# EAGLE library part INA282AID (library library)
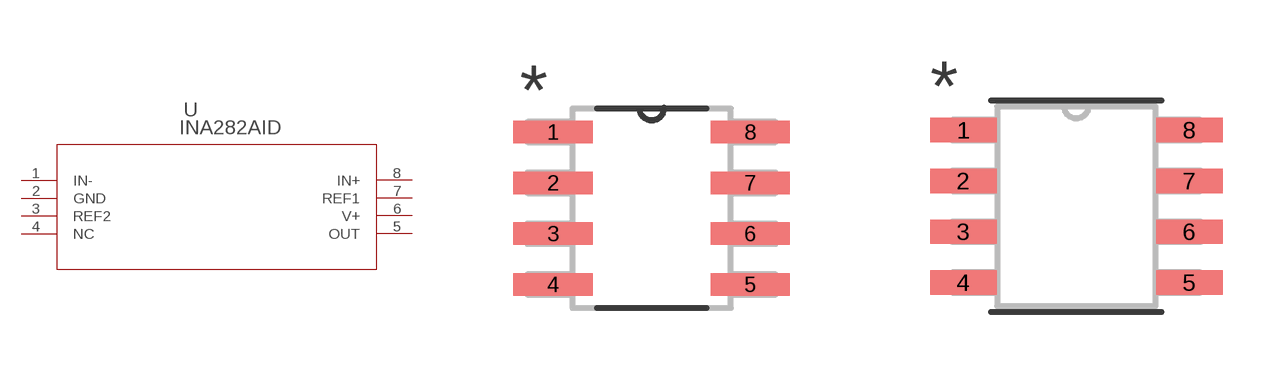
[diagram p1: symbol with the pads of D8; footprints D8, D8-M]

Designator prefix U

## INA282AID (DATASHEET_URL: http://www.ti.com/lit/gpn/INA282; DESCRIPTION: Wide Common Mode Range, Bidirectional, High Accuracy Current Shunt Monitor; FAMILY_NAME: CURRENT SHUNT MONITOR; GENERIC_PART_NUMBER: INA282; INDUSTRY_STD_PKG_TYPE: SOIC; MANUFACTURER: Texas Instruments; MANUFACTURER_PART_NUMBER: INA282AID; PACKAGE_DESIGNATOR: D; PIN_COUNT: 8; VENDOR: Texas Instruments)  [D8]
1  IN-  in
2  GND  pwr
3  REF2  pas
4  NC  pas
5  OUT  out
6  V+  pwr
7  REF1  pas
8  IN+  in

## INA282AIDD8-M (DATASHEET_URL: http://www.ti.com/lit/gpn/INA282; DESCRIPTION: Wide Common Mode Range, Bidirectional, High Accuracy Current Shunt Monitor; FAMILY_NAME: CURRENT SHUNT MONITOR; GENERIC_PART_NUMBER: INA282; INDUSTRY_STD_PKG_TYPE: SOIC; MANUFACTURER: Texas Instruments; MANUFACTURER_PART_NUMBER: INA282AID; PACKAGE_DESIGNATOR: D; PIN_COUNT: 8; VENDOR: Texas Instruments)  [D8-M]
Pads as for D8

## INA282AIDD8-L (DATASHEET_URL: http://www.ti.com/lit/gpn/INA282; DESCRIPTION: Wide Common Mode Range, Bidirectional, High Accuracy Current Shunt Monitor; FAMILY_NAME: CURRENT SHUNT MONITOR; GENERIC_PART_NUMBER: INA282; INDUSTRY_STD_PKG_TYPE: SOIC; MANUFACTURER: Texas Instruments; MANUFACTURER_PART_NUMBER: INA282AID; PACKAGE_DESIGNATOR: D; PIN_COUNT: 8; VENDOR: Texas Instruments)  [D8-L]
Pads as for D8

## Footprint D8 (pad centres in mm)
smd 1.981 x 0.559: 1 -2.464,1.905; 2 -2.464,0.635; 3 -2.464,-0.635; 4 -2.464,-1.905; 5 2.464,-1.905; 6 2.464,-0.635; 7 2.464,0.635; 8 2.464,1.905

## Footprint D8-M (pad centres in mm)
smd 1.664 x 0.61: 1 -2.826,1.905; 2 -2.826,0.635; 3 -2.826,-0.635; 4 -2.826,-1.905; 5 2.826,-1.905; 6 2.826,-0.635; 7 2.826,0.635; 8 2.826,1.905

## Footprint D8-L (pad centres in mm)
smd 1.257 x 0.508: 1 -2.623,1.905; 2 -2.623,0.635; 3 -2.623,-0.635; 4 -2.623,-1.905; 5 2.623,-1.905; 6 2.623,-0.635; 7 2.623,0.635; 8 2.623,1.905